# Altium schematic symbol library adpl_sch_library.SchLib: 3 symbols
Pins are listed as number, name and electrical type; pins without a type are passive.

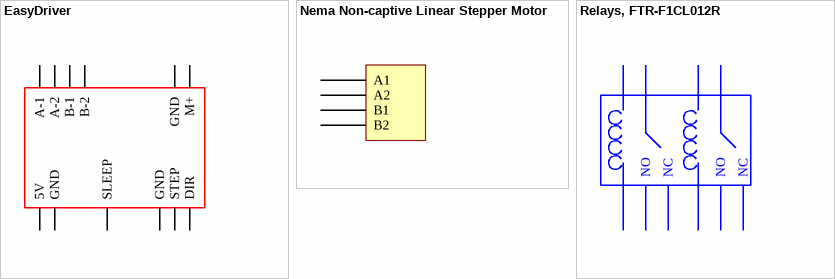
[diagram p0: symbols EasyDriver to Relays, FTR-F1CL012R]

## EasyDriver
designator Y?, comment 105990027  (value not drawn)
EASY DRIVER STEPPER MOTOR DRIVER; Manufacturer: Seeed Technology Co.; Expanded Description: A3967 - Power Management, Motor Control, Stepper Evaluation Board; Mounting Technology: Header; PartNumber: 105990027; DigiKey Part #: 1597-1403-ND
pins: ?1 GND, ?2 STEP, ?3 DIR, ?4 SLEEP, ?5 5V, ?6 GND, ?7 M+, ?8 GND, ?9 A-1, ?10 A-2, ?11 B-1, ?12 B-2

## Nema Non-captive Linear Stepper Motor
designator Y?, comment 23LS22-2004N-150T  (value not drawn)
This is a linear stepper motor which named Nema 23 Non-captive linear actuator, it was composed of 56mm 2A Nema 23 stepper motor and 150mm length Tr11x2 linear screw.; Rated Current: 2.0A; 24-36V: Recommended Voltage; ComponentLink1Description: Manufacturer URL; ComponentLink2URL: http://industrial.panasonic.com/www-data/pdf/AEA5000/AEA5000CE4.pdf; ComponentLink2Description: Datasheet; ComponentLink1URL: http://www.omc-stepperonline.com/nema-23-noncaptive-linear-stepper-motor-56mm-body-150mm-lead-screw-t11-x-2-p-150.html; Part Number: 23LS22-2004N-150T
pins: A1, A2, B1, B2

## Relays, FTR-F1CL012R
designator Y?, comment General Purpose Relay
FTR-F1CL012R; Manufacturer: Fujitsu; Contact Form: DPDT (2 Form C); Contact Current Rating: 8A; Coil Voltage: 3-48V; ComponentLink2URL: http://www.mouser.com/ProductDetail/Fujitsu/FTR-F1CL012R/?qs=FfNbArp%252bdljfCwmtc6l6nQ%3D%3D; ComponentLink2Description: Mouser
pins: 0, 1, 2, 3 NO, 4 NC, 5 0, 6 2, 7 NO, 8 NC, 9 1